# Altium schematic symbol library CPU_NXP_68000.SchLib: 5 symbols
Pins are listed as number, name and electrical type; pins without a type are passive.

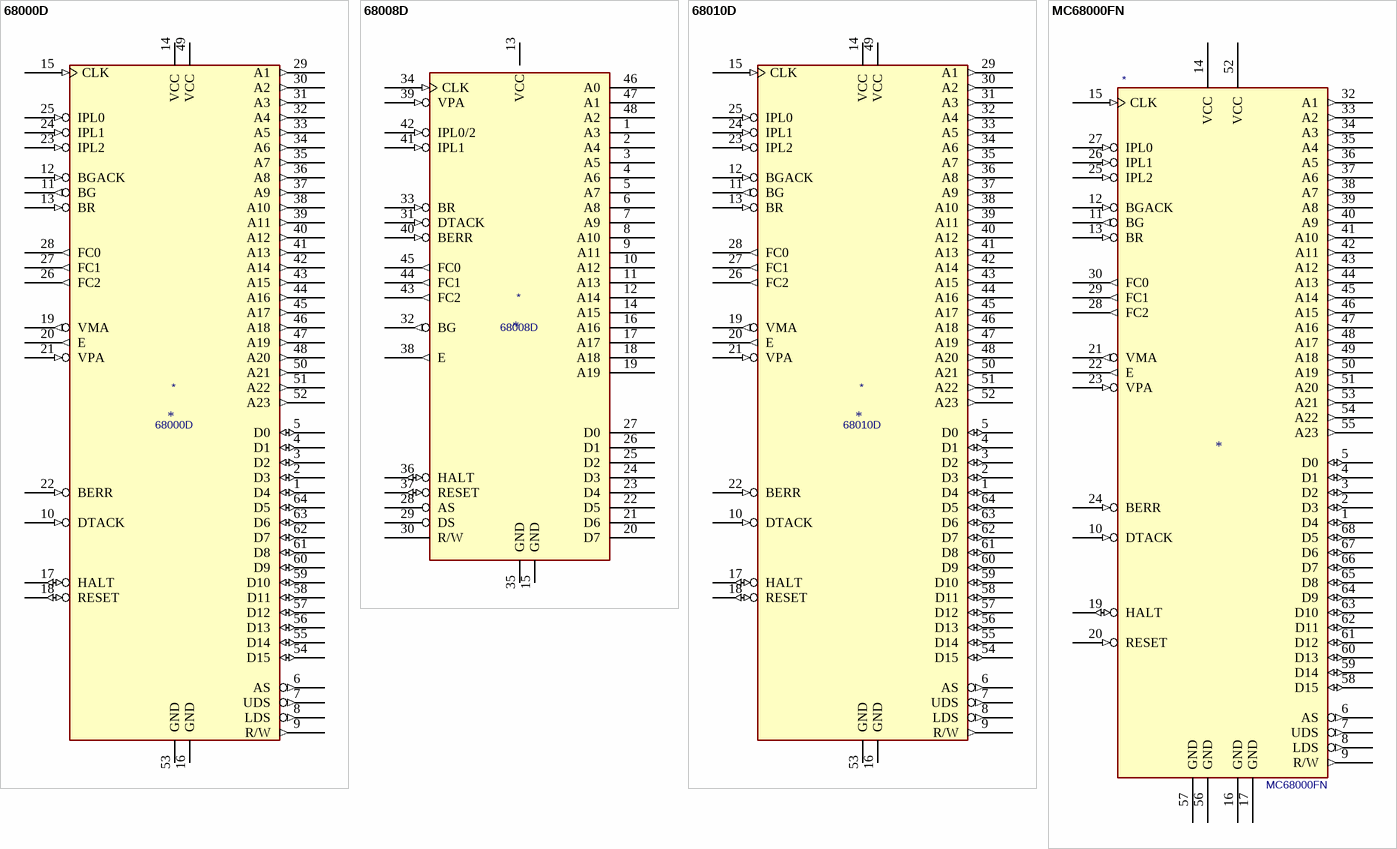
[diagram p0: symbols 68000D to MC68000FN]

## 68000D
designator *  value 68000D
ki_keywords: 68000 Microprocessor CPU; ki_description: 16/32-bit Microprocessor; Supplier: https://www.nxp.com/docs/en/reference-manual/MC68000UM.pdf
pins: 1 D4 (io), 2 D3 (io), 3 D2 (io), 4 D1 (io), 5 D0 (io), 6 AS (out), 7 UDS (out), 8 LDS (out), 9 R/W (out), 10 DTACK (in), 11 BG (out), 12 BGACK (in), 13 BR (in), 14 VCC (power), 15 CLK (in), 16 GND (power), 17 HALT (io), 18 RESET (io), 19 VMA (out), 20 E (out), 21 VPA (in), 22 BERR (in), 23 IPL2 (in), 24 IPL1 (in), 25 IPL0 (in), 26 FC2 (out), 27 FC1 (out), 28 FC0 (out), 29 A1 (out), 30 A2 (out), 31 A3 (out), 32 A4 (out), 33 A5 (out), 34 A6 (out), 35 A7 (out), 36 A8 (out), 37 A9 (out), 38 A10 (out), 39 A11 (out), 40 A12 (out), 41 A13 (out), 42 A14 (out), 43 A15 (out), 44 A16 (out), 45 A17 (out), 46 A18 (out), 47 A19 (out), 48 A20 (out), 49 VCC (power), 50 A21 (out), 51 A22 (out), 52 A23 (out), 53 GND (power), 54 D15 (io), 55 D14 (io), 56 D13 (io), 57 D12 (io), 58 D11 (io), 59 D10 (io), 60 D9 (io), 61 D8 (io), 62 D7 (io), 63 D6 (io), 64 D5 (io)

## 68008D
designator *  value 68008D
ki_keywords: 68000 Microprocessor CPU; ki_description: 16/32-bit Microprocessor, 8-bit databus; Supplier: https://www.nxp.com/docs/en/reference-manual/MC68000UM.pdf
pins: 1 A3 (hiz), 2 A4 (hiz), 3 A5 (hiz), 4 A6 (hiz), 5 A7 (hiz), 6 A8 (hiz), 7 A9 (hiz), 8 A10 (hiz), 9 A11 (hiz), 10 A12 (hiz), 11 A13 (hiz), 12 A14 (hiz), 13 VCC (power), 14 A15 (hiz), 15 GND (power), 16 A16 (hiz), 17 A17 (hiz), 18 A18 (hiz), 19 A19 (hiz), 20 D7 (hiz), 21 D6 (hiz), 22 D5 (hiz), 23 D4 (hiz), 24 D3 (hiz), 25 D2 (hiz), 26 D1 (hiz), 27 D0 (hiz), 28 AS (hiz), 29 DS (hiz), 30 R/W (hiz), 31 DTACK (in), 32 BG (out), 33 BR (in), 34 CLK (in), 35 GND (power), 36 HALT (io), 37 RESET (io), 38 E (out), 39 VPA (in), 40 BERR (in), 41 IPL1 (in), 42 IPL0/2 (in), 43 FC2 (out), 44 FC1 (out), 45 FC0 (out), 46 A0 (hiz), 47 A1 (hiz), 48 A2 (hiz)

## 68010D
designator *  value 68010D
ki_keywords: 68000 Microprocessor CPU; ki_description: 16/32-bit Microprocessor; Supplier: https://www.nxp.com/docs/en/reference-manual/MC68000UM.pdf
pins: 1 D4 (io), 2 D3 (io), 3 D2 (io), 4 D1 (io), 5 D0 (io), 6 AS (out), 7 UDS (out), 8 LDS (out), 9 R/W (out), 10 DTACK (in), 11 BG (out), 12 BGACK (in), 13 BR (in), 14 VCC (power), 15 CLK (in), 16 GND (power), 17 HALT (io), 18 RESET (io), 19 VMA (out), 20 E (out), 21 VPA (in), 22 BERR (in), 23 IPL2 (in), 24 IPL1 (in), 25 IPL0 (in), 26 FC2 (out), 27 FC1 (out), 28 FC0 (out), 29 A1 (out), 30 A2 (out), 31 A3 (out), 32 A4 (out), 33 A5 (out), 34 A6 (out), 35 A7 (out), 36 A8 (out), 37 A9 (out), 38 A10 (out), 39 A11 (out), 40 A12 (out), 41 A13 (out), 42 A14 (out), 43 A15 (out), 44 A16 (out), 45 A17 (out), 46 A18 (out), 47 A19 (out), 48 A20 (out), 49 VCC (power), 50 A21 (out), 51 A22 (out), 52 A23 (out), 53 GND (power), 54 D15 (io), 55 D14 (io), 56 D13 (io), 57 D12 (io), 58 D11 (io), 59 D10 (io), 60 D9 (io), 61 D8 (io), 62 D7 (io), 63 D6 (io), 64 D5 (io)

## MC68000FN
designator *  value MC68000FN
ki_keywords: MPRO; ki_description: Microprocessor, 16-bit bus; ki_fp_filters: PLCC*; Footprint: Package_LCC:PLCC-68; Supplier: http://www.nxp.com/files/32bit/doc/ref_manual/MC68000UM.pdf
footprint PLCC-68
pins: 1 D4 (io), 2 D3 (io), 3 D2 (io), 4 D1 (io), 5 D0 (io), 6 AS (out), 7 UDS (out), 8 LDS (out), 9 R/W (out), 10 DTACK (in), 11 BG (out), 12 BGACK (in), 13 BR (in), 14 VCC (power), 15 CLK (in), 16 GND (power), 17 GND (power), 18 NC (in) hidden, 19 HALT (io), 20 RESET (in), 21 VMA (out), 22 E (out), 23 VPA (in), 24 BERR (in), 25 IPL2 (in), 26 IPL1 (in), 27 IPL0 (in), 28 FC2 (out), 29 FC1 (out), 30 FC0 (out), 31 NC (in) hidden, 32 A1 (out), 33 A2 (out), 34 A3 (out), 35 A4 (out), 36 A5 (out), 37 A6 (out), 38 A7 (out), 39 A8 (out), 40 A9 (out), 41 A10 (out), 42 A11 (out), 43 A12 (out), 44 A13 (out), 45 A14 (out), 46 A15 (out), 47 A16 (out), 48 A17 (out), 49 A18 (out), 50 A19 (out), 51 A20 (out), 52 VCC (power), 53 A21 (out), 54 A22 (out), 55 A23 (out), 56 GND (power), 57 GND (power), 58 D15 (io), 59 D14 (io), 60 D13 (io), 61 D12 (io), 62 D11 (io), 63 D10 (io), 64 D9 (io), 65 D8 (io), 66 D7 (io), 67 D6 (io), 68 D5 (io)

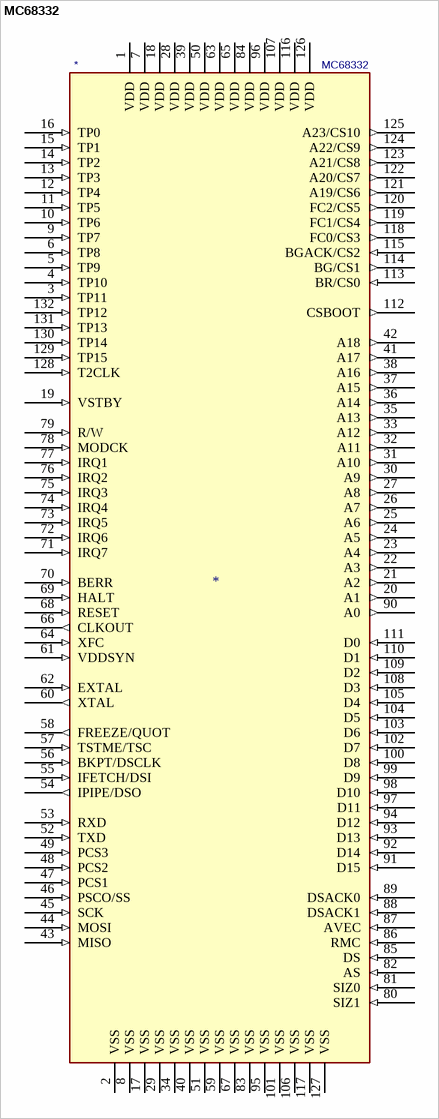
[diagram p1: symbol MC68332]

## MC68332
designator *  value MC68332
ki_keywords: MCU 32 bit; ki_description: MCU 32 bit, PQFP-132; ki_fp_filters: PQFP*24x24mm*P0.635mm*; Footprint: Package_QFP:PQFP-132_24x24mm_P0.635mm; Supplier: http://pdf.datasheetcatalog.com/datasheet/motorola/SPAKMC332AVFC20.pdf
footprint PQFP-132_24x24mm_P0.635mm
pins: 1 VDD (power), 2 VSS (power), 3 TP11 (in), 4 TP10 (in), 5 TP9 (in), 6 TP8 (in), 7 VDD (power), 8 VSS (power), 9 TP7 (in), 10 TP6 (in), 11 TP5 (in), 12 TP4 (in), 13 TP3 (in), 14 TP2 (in), 15 TP1 (in), 16 TP0 (in), 17 VSS (power), 18 VDD (power), 19 VSTBY (in), 20 A1 (out), 21 A2 (out), 22 A3 (out), 23 A4 (out), 24 A5 (out), 25 A6 (out), 26 A7 (out), 27 A8 (out), 28 VDD (power), 29 VSS (power), 30 A9 (out), 31 A10 (out), 32 A11 (out), 33 A12 (out), 34 VSS (power), 35 A13 (out), 36 A14 (out), 37 A15 (out), 38 A16 (out), 39 VDD (power), 40 VSS (power), 41 A17 (out), 42 A18 (out), 43 MISO (in), 44 MOSI (in), 45 SCK (in), 46 PSCO/SS (in), 47 PCS1 (in), 48 PCS2 (in), 49 PCS3 (in), 50 VDD (power), 51 VSS (power), 52 TXD (in), 53 RXD (in), 54 IPIPE/DSO (out), 55 IFETCH/DSI (in), 56 BKPT/DSCLK (in), 57 TSTME/TSC (in), 58 FREEZE/QUOT (out), 59 VSS (power), 60 XTAL (out), 61 VDDSYN (in), 62 EXTAL (in), 63 VDD (power), 64 XFC (in), 65 VDD (power), 66 CLKOUT (out), 67 VSS (power), 68 RESET (in), 69 HALT (in), 70 BERR (in), 71 IRQ7 (in), 72 IRQ6 (in), 73 IRQ5 (in), 74 IRQ4 (in), 75 IRQ3 (in), 76 IRQ2 (in), 77 IRQ1 (in), 78 MODCK (in), 79 R/W (in), 80 SIZ1 (in), 81 SIZ0 (in), 82 AS (in), 83 VSS (power), 84 VDD (power), 85 DS (in), 86 RMC (in), 87 AVEC (in), 88 DSACK1 (in), 89 DSACK0 (in), 90 A0 (out), 91 D15 (in), 92 D14 (in), 93 D13 (in), 94 D12 (in), 95 VSS (power), 96 VDD (power), 97 D11 (in), 98 D10 (in), 99 D9 (in), 100 D8 (in), 101 VSS (power), 102 D7 (in), 103 D6 (in), 104 D5 (in), 105 D4 (in), 106 VSS (power), 107 VDD (power), 108 D3 (in), 109 D2 (in), 110 D1 (in), 111 D0 (in), 112 CSBOOT (out), 113 BR/CS0 (in), 114 BG/CS1 (out), 115 BGACK/CS2 (in), 116 VDD (power), 117 VSS (power), 118 FC0/CS3 (out), 119 FC1/CS4 (out), 120 FC2/CS5 (out), 121 A19/CS6 (out), 122 A20/CS7 (out), 123 A21/CS8 (out), 124 A22/CS9 (out), 125 A23/CS10 (out), 126 VDD (power), 127 VSS (power), 128 T2CLK (in), 129 TP15 (in), 130 TP14 (in), 131 TP13 (in), 132 TP12 (in)